# Altium footprint library 嵌入式元件.PcbLib: 20 footprints (part 1 of 2)
Each footprint in its own frame and in the unit in brackets; x right, y up, seen from the top. Pads: shape width x height; smd on the part's side, far side on the other; paste and mask are expansions set on the pad; w line width, h text height; cw(c..) or ccw(c..) is an arc to the next point about the centre after c.
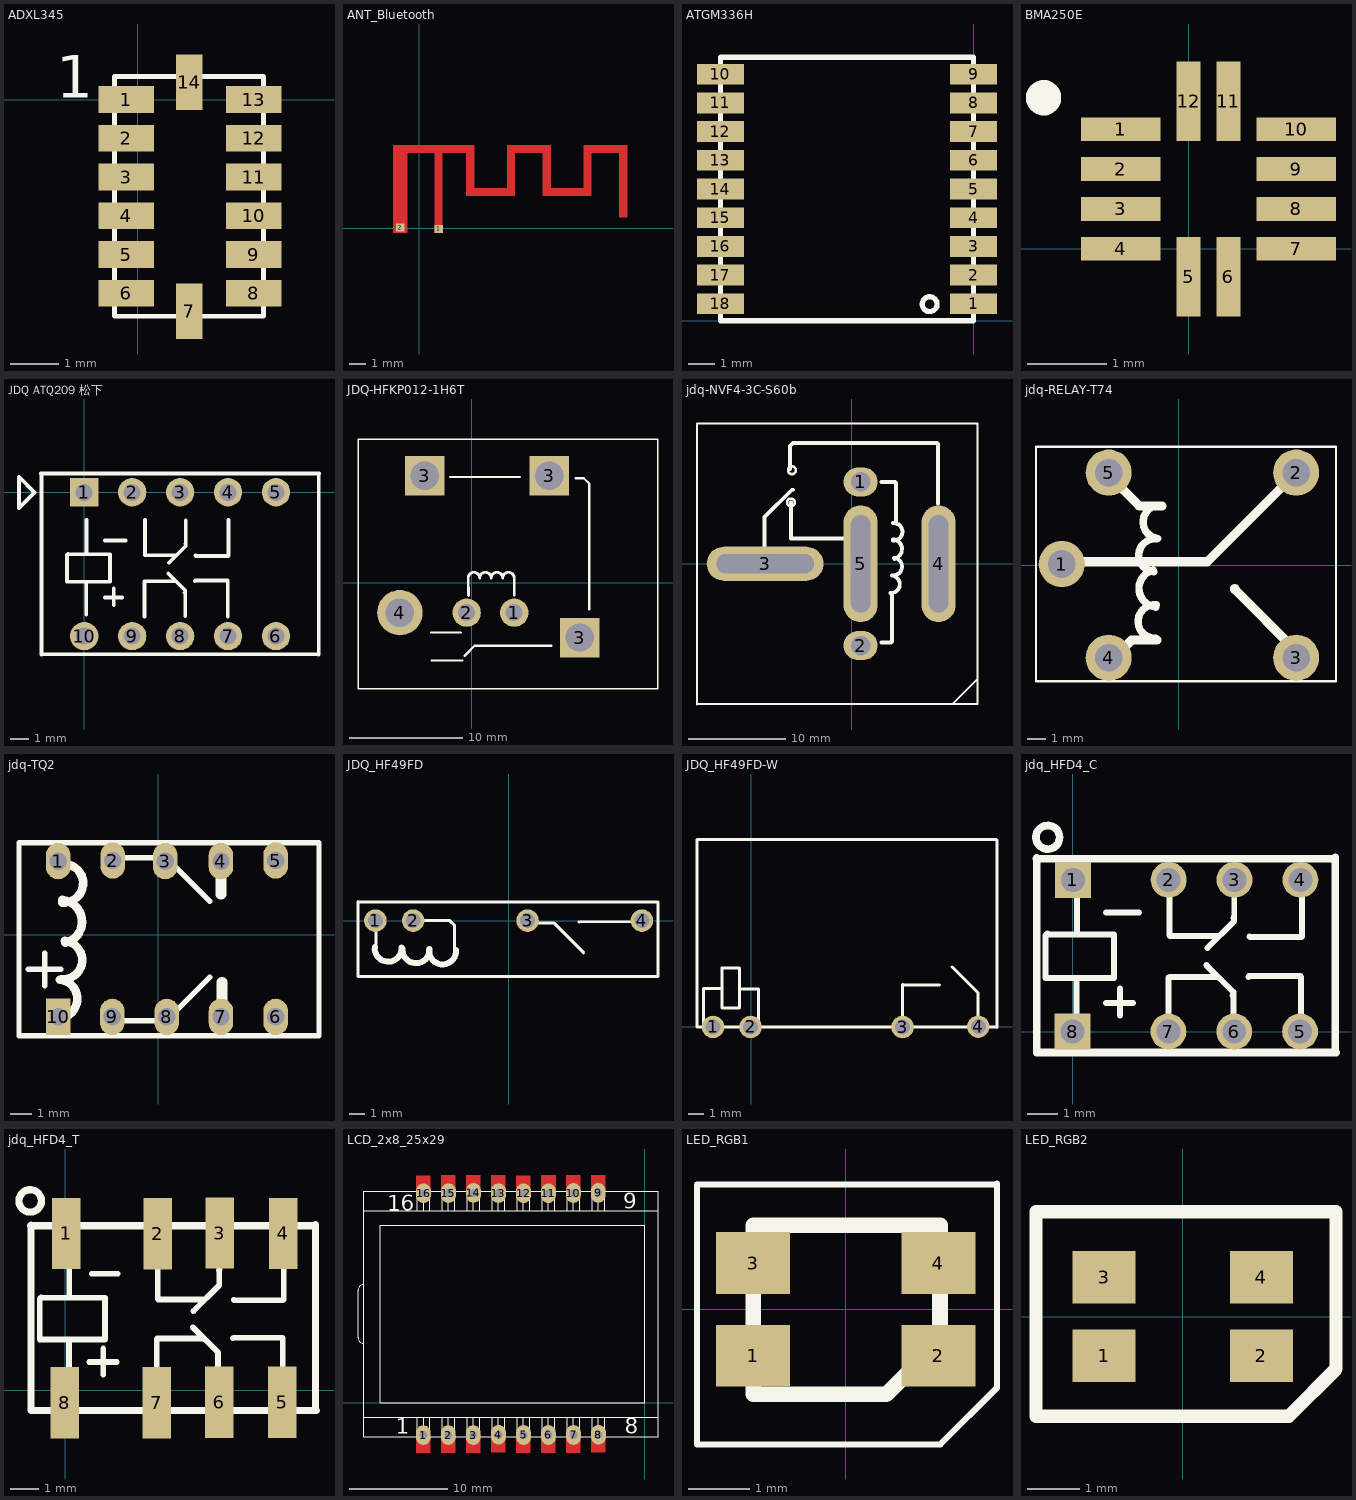
[diagram p0: the footprints below, top view; thin cyan lines are the x and y axes]

## ADXL345 [mm]
pads (14):
  rect 1.145x0.55 smd: 1(-0.236,0) 2(-0.236,-0.8) 3(-0.236,-1.6) 4(-0.236,-2.4) 5(-0.236,-3.2) 6(-0.236,-4) 8(2.401,-4) 9(2.401,-3.2) 10(2.401,-2.4) 11(2.401,-1.6) 12(2.401,-0.8) 13(2.401,0)
  rect 0.55x1.145 smd: 7(1.064,-4.372) 14(1.064,0.355)
Top Overlay:
  lines w0.1: -0.45,0.475 -0.475,0.475 -0.475,-4.475 2.6,-4.475 2.6,0.475 -0.425,0.475
  text "1" at -1.675,-0.25 h1.5

## ANT_Bluetooth [mm] "天线 蓝牙"
pads (2):
  rect 0.5x0.5 smd: 1(1.18,-0.04) 2(-1.18,0.041)
Top Layer:
  region: 12.273,4.937 12.273,0.666 12.773,0.666 12.773,4.937
  rectangle: 10.073,4.606 12.773,5.107
  region: 10.573,1.967 10.573,4.937 10.073,4.937 10.073,1.967
  rectangle: 7.745,1.967 10.412,2.467
  region: 8.073,1.967 8.073,4.911 7.573,4.911 7.573,1.967
  rectangle: 5.373,4.607 8.073,5.107
  region: 5.873,1.967 5.873,4.886 5.373,4.886 5.373,1.967
  rectangle: 2.97,1.967 5.713,2.467
  region: 3.373,1.966 3.373,5.064 2.873,5.064 2.873,1.966
  region: 0.923,4.962 0.923,-0.292 1.423,-0.292 1.423,4.962
  region: 3.373,5.107 -1.627,5.107 -1.627,4.606 3.373,4.606
  region: -0.727,-0.294 -0.727,4.911 -1.627,4.911 -1.627,-0.294

## ATGM336H [mm]
height 3.81
pads (18):
  rect 1.8x0.8 smd: 1(0,0.65) 2(0,1.75) 3(0,2.85) 4(0,3.95) 5(0,5.05) 6(0,6.15) 7(0,7.25) 8(0,8.35) 9(0,9.45) 10(-9.7,9.45) 11(-9.7,8.35) 12(-9.7,7.25) 13(-9.7,6.15) 14(-9.7,5.05) 15(-9.7,3.95) 16(-9.7,2.85) 17(-9.7,1.75) 18(-9.7,0.65)
Top Overlay:
  circle w0.2: c-1.681,0.635 r0.284
  lines w0.2: -9.7,0 0,0 0,10.1 -9.7,10.1 -9.7,0

## BMA250E [mm]
pads (12):
  rect 1x0.3 smd: 1(-0.85,1.5) 2(-0.85,1) 3(-0.85,0.5) 4(-0.85,0) 7(1.35,0) 8(1.35,0.5) 9(1.35,1) 10(1.35,1.5)
  rect 0.3x1 smd: 5(0,-0.35) 6(0.5,-0.35) 11(0.5,1.85) 12(0,1.85)
Top Overlay:
  circle w0.254: c-1.82,1.895 r0.095

## JDQ ATQ209 松下 [mm]
height 3.81
pads (10):
  rect 1.5x1.5 hole 0.9: 1(0,0)
  round 1.5 hole 0.9: 2(2.54,0) 3(5.08,0) 4(7.62,0) 5(10.16,0) 6(10.16,-7.62) 7(7.62,-7.62) 8(5.08,-7.62) 9(2.54,-7.62) 10(0,-7.62)
Top Overlay:
  lines w0.2: -2.29,0.99 12.44,0.99 ; -2.28,-8.57 12.4,-8.591 ; -2.27,-8.59 -2.27,0.97 ; -0.89,-3.28 1.37,-3.28 1.37,-4.74 -0.92,-4.74 -0.92,-3.32 -0.86,-3.26 ; 0.11,-6.47 0.11,-4.83 ; 0.12,-3.23 0.12,-1.46 ; 1.09,-2.56 2.19,-2.56 ; 1.1,-5.57 2,-5.57 ; 1.56,-5.99 1.56,-5.1 ; 3.19,-6.58 3.19,-4.73 3.21,-4.71 4.84,-4.71 ; 3.22,-1.47 3.22,-3.32 3.24,-3.34 4.87,-3.34 ; 4.45,-4.31 5.35,-5.21 5.35,-5.32 ; 4.48,-3.74 5.38,-2.84 5.38,-2.73 ; 5.32,-5.32 5.35,-5.35 5.35,-6.55 ; 5.35,-2.73 5.38,-2.7 5.38,-1.5 ; 5.86,-4.7 5.88,-4.68 7.59,-4.68 7.61,-4.7 7.61,-6.59 ; 5.89,-3.35 5.91,-3.37 7.62,-3.37 7.64,-3.35 7.64,-1.46 ; 12.43,-8.59 12.43,0.97 ; -3.457,-0.832 -2.632,-0.006 -3.457,0.819 -3.457,-0.832

## JDQ-HFKP012-1H6T [mm]
height 20
pads (6):
  round 2.5 hole 1.5: 1(3.75,-2.625) 2(-0.45,-2.625)
  rect 3.5x3.5 hole 2.5: 3(-4.15,9.475) 3(6.85,9.475) 3(9.55,-4.825)
  round 4 hole 2.5: 4(-6.35,-2.625)
Top Overlay:
  lines w0.127: -10.05,-9.325 16.45,-9.325 16.45,12.675 -10.05,12.675 -10.05,-9.325
  lines w0.2: -3.6,-4.375 -0.975,-4.375 ; -3.55,-6.85 -0.825,-6.85 ; -1.925,9.35 4.25,9.35 ; -0.65,-6.45 0.25,-5.55 0.3,-5.55 7.05,-5.55 ; 9.175,9.25 9.9,9.25 10.375,8.775 10.375,-2.35
  lines w0.25: -0.316,0.436 -0.292,-1.1 ; 3.748,-1.088 3.748,0.436
  lines w0.254: -0.316,0.436 cw(c0.192,0.436) 0.7,0.436 cw(c1.208,0.436) 1.716,0.436 cw(c2.224,0.436) 2.732,0.436 cw(c3.24,0.436) 3.748,0.436

## jdq-NVF4-3C-S60b [mm]
pads (5):
  oval 3.5x3 hole 2: 1(0.9,8.4) 2(0.9,-8.4)
  oval 12x3.5 hole 2 slot 10 at 0 deg: 3(-8.9,0)
  oval 3.5x12 hole 2 slot 10 at 90 deg: 4(8.9,0) 5(0.9,0)
Top Overlay:
  circle w0.254: c-6.26,6.3 r0.4
  circle w0.254: c-6.16,9.6 r0.4
  lines w0.2: -15.9,-14.452 -15.9,14.392 ; -15.877,14.4 12.917,14.4 ; -15.86,-14.4 12.916,-14.4 ; 10.418,-14.325 12.888,-11.855 ; 12.9,-14.37 12.9,14.38
  lines w0.4: -8.96,1.8 -8.96,4.8 -6.16,7.6 -6.06,7.6 ; -6.36,9.7 -6.36,12.1 -6.06,12.4 8.74,12.4 8.84,12.3 8.84,6.2 ; -6.26,6.3 -6.26,2.6 -0.86,2.6 ; 3.04,-8.1 4.04,-8.1 ; 3.04,8.4 4.44,8.4 4.54,8.3 4.54,7.5 4.54,4.3 ; 3.94,-3 ccw(c4.021,-2.104) 4.111,-1.208 ; 4.14,-8 4.14,-3.1 ; 4.169,-1.192 ccw(c4.249,-0.295) 4.34,0.6 ; 4.211,2.392 ccw(c4.292,3.288) 4.241,4.187 ; 4.224,2.51 cw(c4.121,1.496) 4.363,0.506

## jdq-RELAY-T74 [mm]
pads (5):
  round 2.5 hole 1.5: 1(-6.35,0.064) 2(6.35,5.016) 3(6.35,-5.016) 4(-3.81,-5.016) 5(-3.81,5.016)
Top Overlay:
  lines w0.127: -7.747,-6.286 8.509,-6.286 8.509,6.413 -7.747,6.413 -7.747,-6.286
  lines w0.4: -1.389,-0.268 ccw(c-1.146,-1.258) -1.249,-2.272 ; -1.366,-0.361 cw(c-1.275,0.534) -1.194,1.43 ; -1.267,-3.948 cw(c-1.318,-3.05) -1.237,-2.153 ; -1.137,1.447 cw(c-1.046,2.342) -0.966,3.238
  lines w0.5: -6.476,0.189 1.524,0.189 6.374,5.038 ; -3.801,4.864 -2.151,3.214 -0.926,3.214 ; -3.726,-5.211 -2.576,-4.061 -1.201,-4.061 ; 3.024,-1.262 3.024,-1.312 6.399,-4.687 6.399,-4.937

## jdq-TQ2 [mm]
pads (10):
  oval 1.145x1.7 hole 0.813: 1(-4.675,3.45) 2(-2.125,3.475) 3(0.325,3.45) 4(2.925,3.45) 5(5.475,3.475) 6(5.475,-3.825) 7(2.925,-3.825) 8(0.4,-3.825) 9(-2.15,-3.825)
  rect 1.145x1.7 hole 0.813: 10(-4.675,-3.825)
Top Overlay:
  lines w0.254: -6.075,-1.6 -4.551,-1.6 ; -5.3,-2.374 -5.3,-0.85 ; -1.672,-4.006 -0.148,-4.006 ; -1.672,3.614 -0.148,3.614 ; 0.868,-3.498 2.392,-1.974 ; 0.868,3.106 2.392,1.582 ; -6.5,-4.7 -6.5,4.3 7.5,4.3 7.5,-4.7 -6.5,-4.7
  lines w0.4: -4.76,-3.875 ccw(c-4.679,-2.979) -4.589,-2.083 ; -4.531,-2.067 ccw(c-4.451,-1.17) -4.36,-0.275 ; -4.489,1.517 ccw(c-4.408,2.413) -4.459,3.312 ; -4.476,1.635 cw(c-4.579,0.621) -4.337,-0.369
  lines w0.5: 2.925,1.9 2.925,3.525 ; 2.975,-3.725 2.975,-2.2

## JDQ_HF49FD [mm]
pads (4):
  round 1.5 hole 1: 1(-8.882,0) 2(-6.362,0) 3(1.262,0) 4(8.882,0)
Top Overlay:
  lines w0.2: -10.043,1.25 9.957,1.25 ; -10.043,1.275 -10.043,-3.725 9.957,-3.725 9.957,1.225 ; -8.843,0.05 -8.843,-1.775 -8.793,-1.825 -8.793,-1.775 ; -6.343,0 -3.918,0 -3.593,-0.325 -3.593,-1.9 -3.518,-1.975 -3.518,-1.95 ; 1.232,-0.15 3.007,-0.15 5.007,-2.15 ; 4.682,-0.1 4.707,-0.075 8.857,-0.075
  lines w0.4: -8.926,-1.761 ccw(c-8.029,-1.842) -7.131,-1.791 ; -7.076,-1.861 ccw(c-6.179,-1.942) -5.281,-1.891 ; -5.301,-1.936 ccw(c-4.404,-2.017) -3.506,-1.966

## JDQ_HF49FD-W [mm]
pads (4):
  round 1.5 hole 1: 1(-2.54,-0.03) 2(-0.03,-0.03) 3(10.12,-0.04) 4(15.18,-0.01)
Top Overlay:
  lines w0.2: -3.61,12.48 -3.61,-0.04 16.39,-0.04 ; -3.6,12.48 16.4,12.48 ; -3.16,-0.06 -3.18,-0.04 -3.18,2.54 -1.99,2.54 -1.97,2.52 ; -1.95,3.9 -1.93,3.92 -0.78,3.92 -0.78,1.22 -1.93,1.22 -1.93,3.88 ; -0.78,2.52 0.51,2.52 0.51,0.04 0.63,-0.08 ; 10.11,-0.01 10.11,2.82 10.16,2.77 12.59,2.77 ; 13.44,3.98 15.16,2.26 15.16,-0.03 ; 16.43,-0.07 16.43,12.45

## jdq_HFD4_C [mm]
pads (8):
  rect 1.2x1.2 hole 0.8: 1(0.01,5.07) 8(0,0)
  round 1.2 hole 0.8: 2(3.21,5.07) 3(5.41,5.07) 4(7.61,5.07) 5(7.6,0) 6(5.4,0) 7(3.2,0)
Top Overlay:
  circle w0.254: c-0.83,6.49 r0.394
  lines w0.2: -0.87,3.25 1.39,3.25 1.39,1.79 -0.9,1.79 -0.9,3.21 -0.84,3.27 ; 0.13,0.06 0.13,1.7 ; 0.14,3.3 0.14,5.07 ; 1.11,3.97 2.21,3.97 ; 1.12,0.96 2.02,0.96 ; 1.58,0.54 1.58,1.43 ; 3.21,-0.05 3.21,1.8 3.23,1.82 4.86,1.82 ; 3.24,5.06 3.24,3.21 3.26,3.19 4.89,3.19 ; 4.47,2.22 5.37,1.32 5.37,1.21 ; 4.5,2.79 5.4,3.69 5.4,3.8 ; 5.34,1.21 5.37,1.18 5.37,-0.02 ; 5.37,3.8 5.4,3.83 5.4,5.03 ; 5.88,1.83 5.9,1.85 7.61,1.85 7.63,1.83 7.63,-0.06 ; 5.91,3.18 5.93,3.16 7.64,3.16 7.66,3.18 7.66,5.07
  lines w0.254: -1.22,5.78 8.78,5.78 ; -1.2,5.8 -1.2,-0.7 8.8,-0.7 ; 8.78,-0.68 8.78,5.82

## jdq_HFD4_T [mm]
pads (8):
  rect 1x2.5 smd: 1(0.03,5.51) 2(3.24,5.5) 3(5.42,5.52) 4(7.65,5.51) 5(7.61,-0.41) 6(5.4,-0.41) 7(3.21,-0.43) 8(-0.02,-0.43)
Top Overlay:
  circle w0.254: c-1.23,6.65 r0.394
  lines w0.2: -0.87,3.25 1.39,3.25 1.39,1.79 -0.9,1.79 -0.9,3.21 -0.84,3.27 ; 0.13,0.06 0.13,1.7 ; 0.14,3.3 0.14,5.07 ; 0.84,1 1.8,1 ; 0.93,4.09 1.84,4.09 ; 1.33,0.55 1.33,1.47 ; 3.21,-0.05 3.21,1.8 3.23,1.82 4.86,1.82 ; 3.24,5.06 3.24,3.21 3.26,3.19 4.89,3.19 ; 4.47,2.22 5.37,1.32 ; 4.5,2.79 5.4,3.69 5.4,3.8 ; 5.32,0.78 5.35,0.75 ; 5.35,0.78 5.35,0.89 ; 5.36,0.09 5.36,1.29 ; 5.38,4.21 5.41,4.24 ; 5.4,3.79 5.4,4.99 ; 5.88,1.83 5.9,1.85 7.61,1.85 7.63,1.83 7.63,-0.06 ; 5.91,3.18 5.93,3.16 7.64,3.16 7.66,3.18 7.66,5.07
  lines w0.254: -1.22,5.78 8.78,5.78 ; -1.2,5.8 -1.2,-0.7 8.8,-0.7 ; 8.78,-0.68 8.78,5.82

## LCD_2x8_25x29 [mm]
pads (16):
  oval 1.5x2 hole 0.8: 1(-22.516,-3.311) 2(-19.976,-3.311) 3(-17.436,-3.311) 4(-14.876,-3.271) 5(-12.326,-3.301) 6(-9.796,-3.301) 7(-7.246,-3.301) 8(-4.706,-3.281) 9(-4.736,21.309) 10(-7.256,21.299) 11(-9.796,21.279) 12(-12.326,21.279) 13(-14.876,21.289) 14(-17.416,21.309) 15(-19.956,21.289) 16(-22.496,21.279)
Top Layer:
  region: -3.971,23.128 -5.461,23.128 -5.461,21.198 -3.971,21.198
  region: -6.511,23.128 -8.001,23.128 -8.001,21.198 -6.511,21.198
  region: -9.051,23.128 -10.541,23.128 -10.541,21.198 -9.051,21.198
  region: -11.611,23.088 -13.101,23.088 -13.101,21.158 -11.611,21.158
  region: -14.161,23.118 -15.651,23.118 -15.651,21.188 -14.161,21.188
  region: -16.691,23.118 -18.181,23.118 -18.181,21.188 -16.691,21.188
  region: -19.241,23.118 -20.731,23.118 -20.731,21.188 -19.241,21.188
  region: -21.781,23.098 -23.271,23.098 -23.271,21.168 -21.781,21.168
  rectangle: -5.47,-5.1 -3.98,-3.17
  rectangle: -8.01,-5.12 -6.52,-3.19
  rectangle: -10.56,-5.12 -9.07,-3.19
  rectangle: -13.09,-5.12 -11.6,-3.19
  rectangle: -15.64,-5.09 -14.15,-3.16
  rectangle: -18.2,-5.13 -16.71,-3.2
  rectangle: -20.74,-5.13 -19.25,-3.2
  rectangle: -23.28,-5.13 -21.79,-3.2
Top Overlay:
  lines w0.1: -28.557,-1.5 1.343,-1.5 ; -28.557,6 cw(c-28.557,6.6) -29.157,6.6 -29.157,11.4 cw(c-28.557,11.4) -28.557,12 ; -23.132,-3.3 -23.132,-1.5 ; -23.132,21.3 -23.132,19.5 -28.557,19.5 1.343,19.5 ; -22.497,-3.3 -22.497,-1.5 ; -22.497,19.5 -22.497,21.3 ; -21.862,-3.3 -21.862,-1.5 ; -21.862,19.5 -21.862,21.3 ; -20.592,-3.3 -20.592,-1.5 ; -20.592,19.5 -20.592,21.3 ; -19.957,-3.3 -19.957,-1.5 ; -19.957,19.5 -19.957,21.3 ; -19.322,-3.3 -19.322,-1.5 ; -19.322,19.5 -19.322,21.3 ; -18.052,-3.3 -18.052,-1.5 ; -18.052,19.5 -18.052,21.3 ; -17.417,-3.3 -17.417,-1.5 ; -17.417,19.5 -17.417,21.3 ; -16.782,-3.3 -16.782,-1.5 ; -16.782,19.5 -16.782,21.3 ; -15.512,-3.3 -15.512,-1.5 ; -15.512,19.5 -15.512,21.3 ; -14.877,-3.3 -14.877,-1.5 ; -14.877,19.5 -14.877,21.3 ; -14.242,-3.3 -14.242,-1.5 ; -14.242,19.5 -14.242,21.3 ; -12.972,-3.3 -12.972,-1.5 ; -12.972,19.5 -12.972,21.3 ; -12.337,-3.3 -12.337,-1.5 ; -12.337,19.5 -12.337,21.3 ; -11.702,-3.3 -11.702,-1.5 ; -11.702,19.5 -11.702,21.3 ; -10.432,-3.3 -10.432,-1.5 ; -10.432,19.5 -10.432,21.3 ; -9.797,-3.3 -9.797,-1.5 ; -9.797,19.5 -9.797,21.3 ; -9.162,-3.3 -9.162,-1.5 ; -9.162,19.5 -9.162,21.3 ; -7.892,-3.3 -7.892,-1.5 ; -7.892,19.5 -7.892,21.3 ; -7.257,-3.3 -7.257,-1.5 ; -7.257,19.5 -7.257,21.3 ; -6.622,-3.3 -6.622,-1.5 ; -6.622,19.5 -6.622,21.3 ; -5.352,-3.3 -5.352,-1.5 ; -5.352,19.5 -5.352,21.3 ; -4.717,-3.3 -4.717,-1.5 ; -4.717,19.5 -4.717,21.3 ; -4.082,-3.3 -4.082,-1.5 ; -4.082,19.5 -4.082,21.3 ; -28.557,-3.5 -28.557,21.5 1.343,21.5 1.343,-3.5 -28.557,-3.5 ; -26.894,0 -26.894,18 0.006,18 0.006,0 -26.894,0
  text "16" at -26.188,19.5 h1.6
  text "9" at -2.185,19.697 h1.6
  text "1" at -25.299,-3.163 h1.6
  text "8" at -2.058,-3.163 h1.6
Top Solder:
  region: -3.991,23.098 -5.421,23.098 -5.421,21.328 -3.991,21.328
  region: -6.531,23.098 -7.961,23.098 -7.961,21.328 -6.531,21.328
  region: -9.071,23.098 -10.501,23.098 -10.501,21.328 -9.071,21.328
  region: -11.631,23.058 -13.061,23.058 -13.061,21.288 -11.631,21.288
  region: -14.181,23.088 -15.611,23.088 -15.611,21.318 -14.181,21.318
  region: -16.711,23.088 -18.141,23.088 -18.141,21.318 -16.711,21.318
  region: -19.261,23.088 -20.691,23.088 -20.691,21.318 -19.261,21.318
  region: -21.801,23.068 -23.231,23.068 -23.231,21.298 -21.801,21.298
  rectangle: -5.45,-5.07 -4.02,-3.3
  rectangle: -7.99,-5.09 -6.56,-3.32
  rectangle: -10.54,-5.09 -9.11,-3.32
  rectangle: -13.07,-5.09 -11.64,-3.32
  rectangle: -15.62,-5.06 -14.19,-3.29
  rectangle: -18.18,-5.1 -16.75,-3.33
  rectangle: -20.72,-5.1 -19.29,-3.33
  rectangle: -23.26,-5.1 -21.83,-3.33

## LED_RGB1 [mm]
pads (4):
  rect 1.2x1 smd: 1(-1.5,-0.75) 2(1.5,-0.75) 3(-1.5,0.75) 4(1.5,0.75)
Top Overlay:
  lines w0.1: 2.418,2.021 -2.409,2.021 -2.409,-2.188 1.531,-2.188 2.449,-1.27 2.449,2.037
  lines w0.254: -1.499,1.362 1.526,1.362 1.526,-0.507 0.656,-1.377 -1.499,-1.377 -1.499,1.363

## LED_RGB2 [mm]
pads (4):
  rect 1.2x1 smd: 1(-1.5,-0.75) 2(1.5,-0.75) 3(-1.5,0.75) 4(1.5,0.75)
Top Overlay:
  lines w0.254: -2.8,-1.9 -2.8,2 2.925,2 2.925,-1 2.025,-1.9 -2.8,-1.9